# Altium schematic symbol library HTST-115-01-T-DV.SchLib: 1 symbol
Pins are listed as number, name and electrical type; pins without a type are passive.

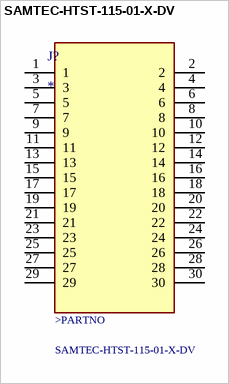
[diagram p0: symbol SAMTEC-HTST-115-01-X-DV]

## SAMTEC-HTST-115-01-X-DV
designator J?
MP: SAMTEC-HTST-115-01-X-DV; MF: {'manufacturer': u'Samtec'}; Package: None; Availability: Unavailable; Price: None; Value: *
footprint SAMTEC-HTST-115-01-X-DV
pins: 1, 2, 3, 4, 5, 6, 7, 8, 9, 10, 11, 12, 13, 14, 15, 16, 17, 18, 19, 20, 21, 22, 23, 24, 25, 26, 27, 28, 29, 30
text: >PARTNO